# Altium footprint library LED SM.PcbLib: 2 footprints
Each footprint in its own frame and in the unit in brackets; x right, y up, seen from the top. Pads: shape width x height; smd on the part's side, far side on the other; paste and mask are expansions set on the pad; w line width, h text height; cw(c..) or ccw(c..) is an arc to the next point about the centre after c.
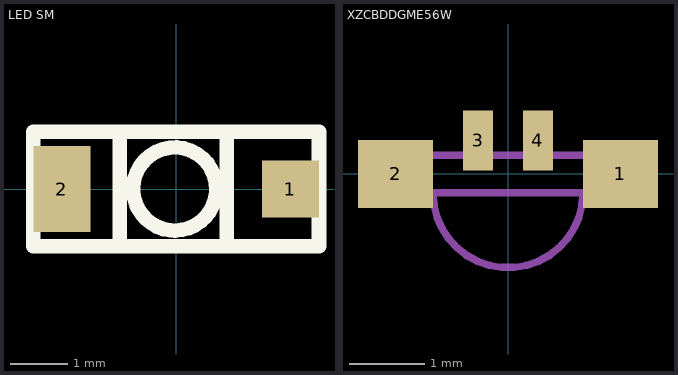
[diagram p0: the footprints below, top view; thin cyan lines are the x and y axes]

## LED SM [mm]
pads (2):
  rect 1x1 smd: 1(2,0)
  rect 1x1.5 smd: 2(-2,0)
Top Overlay:
  lines w0.254: -0.991,1 -0.991,-1 0.864,-1 0.889,-0.975 0.889,1 ; -0.099,-0.724 cw(c-0.025,0) -0.025,-0.728 ; -2.5,-1 2.5,-1 2.5,1 -2.5,1 -2.5,-1
3D body: height 2.65, standoff 0, extent -1.524,-1.016 1.397,1.016
3D body: height 4, standoff 0, extent -0.498,-0.49 0.498,0.508

## XZCBDDGME56W [mm] "3.0x1.0mm RIGHT ANGLE SMD CHIP LED LAMP"
height 1
pads (4):
  rect 1x0.9 smd: 1(1.5,0) 2(-1.5,0)
  rect 0.4x0.8 smd: 3(-0.4,0.45) 4(0.4,0.45)
Top Comp Body:
  lines w0.1: -1,-0.25 ccw(c0,-0.25) 1,-0.25 ; -1.5,-0.25 1.5,-0.25 1.5,0.25 -1.5,0.25 -1.5,-0.25
3D body: height 3, standoff -1.4, extent -1.5,0.25 -1.5,0.25